# Altium integrated library AC6939.IntLib: 1 symbol
Pins are listed as number, name and electrical type; pins without a type are passive.

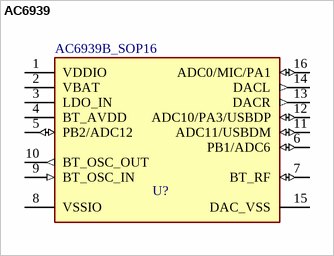
[diagram p0: symbol AC6939]

## AC6939
designator U?
Bluethooth Audio IC; MP: Ch340G; MF: WCH; Value: *; SnapEDA_Link: https://www.snapeda.com/parts/Ch340G/WCH/view-part/?ref=snap; Check_prices: https://www.snapeda.com/parts/Ch340G/WCH/view-part/?ref=eda; Availability: Not in stock; Price: None; Package: None
footprint AC6939 (Bluetooth Audio IC)
pins: 1 VDDIO (power), 2 VBAT (power), 3 LDO_IN (power), 4 BT_AVDD (power), 5 PB2/ADC12 (io), 6 PB1/ADC6 (io), 7 BT_RF (io), 8 VSSIO (power), 9 BT_OSC_IN (in), 10 BT_OSC_OUT (out), 11 ADC11/USBDM (io), 12 ADC10/PA3/USBDP (io), 13 DACR (out), 14 DACL (out), 15 DAC_VSS (power), 16 ADC0/MIC/PA1 (io)
text: AC6939B_SOP16